# Altium schematic symbol library PESD2CAN.Schlib: 1 symbol
Pins are listed as number, name and electrical type; pins without a type are passive.

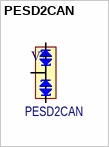
[diagram p0: symbol PESD2CAN]

## PESD2CAN
designator V?
CAN bus ESD protection diode; Назначение: Защитная диодная сборка CAN-шины от ЭСР; Потребление, Вт: 0,001; Наименование: PESD2CAN
footprint SOT-23
pins: 1 C1 "Cathod 1", 2 C2, 3 CC "Common Cathod"